# Altium footprint library PcbLib1.PcbLib: 1 footprints
Each footprint in its own frame and in the unit in brackets; x right, y up, seen from the top. Pads: shape width x height; smd on the part's side, far side on the other; paste and mask are expansions set on the pad; w line width, h text height; cw(c..) or ccw(c..) is an arc to the next point about the centre after c.
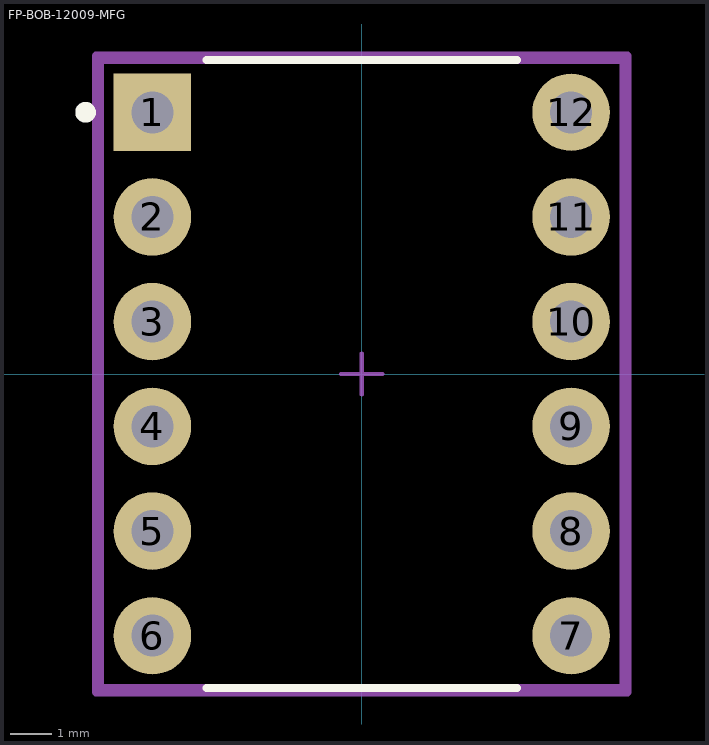
[diagram p0: the footprint, top view; thin cyan lines are the x and y axes]

## FP-BOB-12009-MFG [mm]
pads (12):
  rect 1.88x1.88 hole 1.02 paste-2539.97 mask+0: 1(-5.08,6.35)
  round 1.88 hole 1.02 paste-2539.97 mask+0: 2(-5.08,3.81) 3(-5.08,1.27) 4(-5.08,-1.27) 5(-5.08,-3.81) 6(-5.08,-6.35) 7(5.08,-6.35) 8(5.08,-3.81) 9(5.08,-1.27) 10(5.08,1.27) 11(5.08,3.81) 12(5.08,6.35)
Top Overlay:
  circle w0.25: c-6.7,6.35 r0.125
  lines w0.2: -3.765,-7.62 3.765,-7.62 ; -3.765,7.62 3.765,7.62
Top Assembly:
  lines w0.2: -6.45,-7.72 -6.45,7.72 6.45,7.72 6.45,-7.72 -6.45,-7.72
  text ".Designator" at 0,0.188 h1
Top 3D Body:
  lines w0.2: -6.35,-7.62 -6.35,7.62 6.35,7.62 6.35,-7.62 -6.35,-7.62
Top Courtyard:
  lines w0.2: -6.45,-7.72 -6.45,7.72 6.45,7.72 6.45,-7.72 -6.45,-7.72
Top Component Center:
  lines w0.1: -0.5,0 0.5,0 ; 0,-0.5 0,0.5
3D body "UNK_SparkFun_BOB-12009_eec.STEP": height 0.25, standoff 0, extent -6.45,-7.72 6.45,7.72